# Altium footprint library MSS1038-123MLB.PcbLib: 1 footprints
Each footprint in its own frame and in the unit in brackets; x right, y up, seen from the top. Pads: shape width x height; smd on the part's side, far side on the other; paste and mask are expansions set on the pad; w line width, h text height; cw(c..) or ccw(c..) is an arc to the next point about the centre after c.
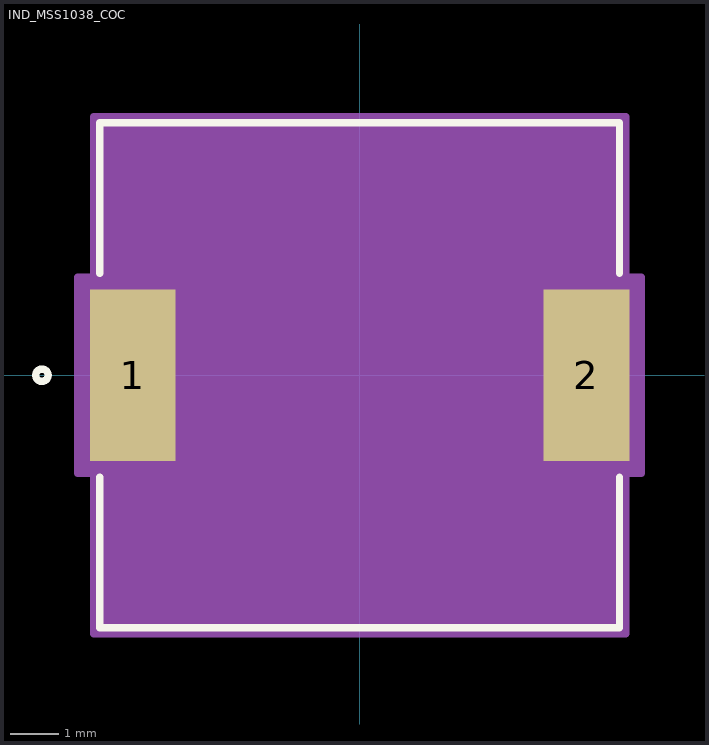
[diagram p0: the footprint, top view; thin cyan lines are the x and y axes]

## IND_MSS1038_COC [mil]
pads (2):
  rect 70x140 smd paste-35 mask+0: 1(-185,0) 2(185,0)
Top Overlay:
  circle w6: c-259,0 r5
  lines w6: -212,-83.1 -212,-206 212,-206 212,-83.1 ; -212,83.1 -212,206 212,206 212,83.1
Mechanical 13:
  circle w0: c-150,0 r3
  lines w0: -12,201 ccw(c0,201) 12,201
  lines w1: -207,-201 207,-201 207,201 -207,201 -207,-201
Mechanical 15:
  region: -217,-80 -230,-80 -230,80 -217,80 -217,211 217,211 217,80 230,80 230,-80 217,-80 217,-211 -217,-211
  lines w6: -230,-80 -230,80 -217,80 -217,211 217,211 217,80 230,80 230,-80 217,-80 217,-211 -217,-211 -217,-80 -230,-80
3D body "IND_MSS1038_COC.step": height 158.11, standoff 0, extent -207.01,-200.98 207.01,200.98